# Altium schematic symbol library Cap_Seiko_CPH3225A_eec.SchLib: 1 symbol
Pins are listed as number, name and electrical type; pins without a type are passive.

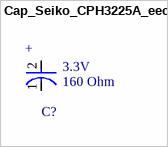
[diagram p0: symbol Cap_Seiko_CPH3225A_eec]

## Cap_Seiko_CPH3225A_eec
designator C?  Capacitance: 160 Ohm  Voltage: 3.3V
CAP 11MF 3.3V SURFACE MOUNT; Part Number: CPH3225A; Manufacturer: Seiko; Value: 160 Ohm; helpURL: https://upverter.com/upn/revision/1e7b63b5275e015f/; ComponentLink2Description: Datasheet; Temperature: -20°C to +60°C; Package: CPH3225A; Supplier 2: Mouser; Price: 1.37380000855; Supplier 1: Digi-Key; ComponentLink1URL: https://upverter.com/upn/revision/1e7b63b5275e015f/; Supplier Part Number 2: 628-CPH3225A; Supplier Part Number 1: 728-1067-1-ND; ComponentLink1Description: Upverter; ComponentLink2URL: https://www.sii.co.jp/en/me/datasheets/chip-capacitor/cph3225a/; RoHS: TRUE; Mouser Part Number: 628-CPH3225A; Temperature Range High: +60°C; Digikey Description: CAP 11MF 3.3V SURFACE MOUNT; Digikey Part Number: 728-1067-1-ND; Lead Free: yes; Mfg Package Ident: CPH3225A; Temperature Range Low: -20°C
footprint Seiko_CPH3225A_0
pins: 1 -, 2 +